# EAGLE library part TE4/9 (library busbar)
BUS BAR 9 connections, grid 4 TE
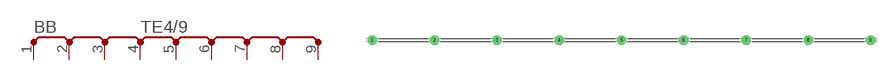
[diagram p2: symbol with the pads of TE4/9; footprint TE4/9]

Designator prefix BB

## TE4/9  [TE4/9]
1  P  pas
2  P  pas
3  P  pas
4  P  pas
5  P  pas
6  P  pas
7  P  pas
8  P  pas
9  P  pas

## Footprint TE4/9 (pad centres in mm)
BUS BAR 9 connections, grid 4 TE
drill 1.6 pad 3.15 octagon: 1 -81.28,0; 2 -60.96,0; 3 -40.64,0; 4 -20.32,0; 5 0,0; 6 20.32,0; 7 40.64,0; 8 60.96,0; 9 81.28,0